# Altium integrated library AO340X.IntLib: 2 symbols
Pins are listed as number, name and electrical type; pins without a type are passive.

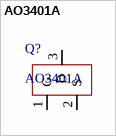
[diagram p0: symbol AO3401A]

## AO3401A
designator Q?
footprint AO3401A(SOT95P240X110-3N) (SOT23, 3-Leads, Body 3.0x2.6mm (max), Pitch 0.95mm, IPC Medium Density)
pins: 1 G, 2 S, 3 D


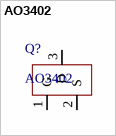
[diagram p1: symbol AO3402]

## AO3402
designator Q?
footprint AO3402(SOT95P240X110-3N) (SOT23, 3-Leads, Body 3.0x2.6mm (max), Pitch 0.95mm, IPC Medium Density)
pins: 1 G, 2 S, 3 D